# Altium footprint library SIM300DZ.PcbLib: 1 footprints
Each footprint in its own frame and in the unit in brackets; x right, y up, seen from the top. Pads: shape width x height; smd on the part's side, far side on the other; paste and mask are expansions set on the pad; w line width, h text height; cw(c..) or ccw(c..) is an arc to the next point about the centre after c.
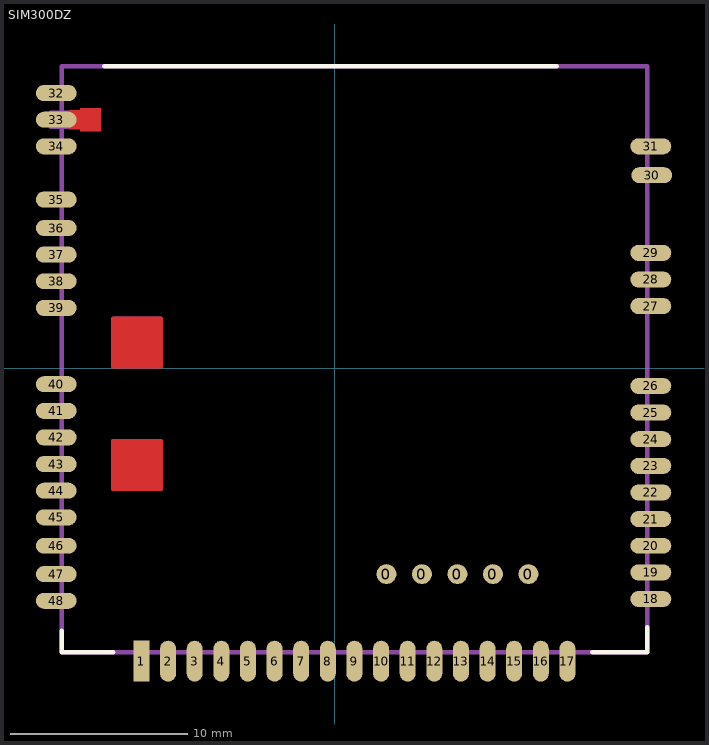
[diagram p0: the footprint, top view; thin cyan lines are the x and y axes]

## SIM300DZ [mm]
pads (53):
  round 1.12 smd: 0(2.9,-11.6) 0(4.9,-11.6) 0(6.9,-11.6) 0(8.9,-11.6) 0(10.9,-11.6)
  rect 0.9x2.3 smd: 1(-10.9,-16.5)
  oval 0.9x2.3 smd: 2(-9.4,-16.5) 3(-7.9,-16.5) 4(-6.4,-16.5) 5(-4.9,-16.5) 6(-3.4,-16.5) 7(-1.9,-16.5) 8(-0.4,-16.5) 9(1.1,-16.5) 10(2.6,-16.5) 11(4.1,-16.5) 12(5.6,-16.5) 13(7.1,-16.5) 14(8.6,-16.5) 15(10.1,-16.5) 16(11.6,-16.5) 17(13.1,-16.5)
  oval 2.3x0.9 smd: 18(17.8,-13) 19(17.8,-11.5) 20(17.8,-10) 21(17.8,-8.5) 22(17.8,-7) 23(17.8,-5.5) 24(17.8,-4) 25(17.8,-2.5) 26(17.8,-1) 27(17.8,3.5) 28(17.8,5) 29(17.8,6.5) 30(17.85,10.876) 31(17.8,12.5) 32(-15.7,15.5) 33(-15.7,14) 34(-15.7,12.5) 35(-15.7,9.5) 36(-15.7,7.9) 37(-15.7,6.4) 38(-15.7,4.9) 39(-15.7,3.4) 40(-15.7,-0.9) 41(-15.7,-2.4) 42(-15.7,-3.9) 43(-15.7,-5.4) 44(-15.7,-6.9) 45(-15.7,-8.4) 46(-15.7,-10) 47(-15.7,-11.6) 48(-15.7,-13.1)
Top Layer:
  rectangle: -12.5,-6.8 -9.8,-4.1
  rectangle: -12.5,0.1 -9.8,2.7
  rectangle: -14.375,13.35 -13.175,14.65
  rectangle: -14.975,13.45 -14.375,14.55
  lines w0.254: -15.9,-4 -15.4,-4 ; -15.9,5 -15.4,5 ; -15.9,6.5 -15.4,6.5 ; -15.9,8 -15.4,8 ; -15.8,-13 -15.4,-13 ; -15.8,-11.5 -15.4,-11.5 ; -15.8,-10 -15.4,-10 ; -15.8,-8.5 -15.4,-8.5 ; -15.8,-5.5 -15.4,-5.5 ; -15.8,-2.5 -15.4,-2.5 ; -15.8,-1 -15.4,-1 ; -15.8,3.5 -15.4,3.5 ; -15.8,9.5 -15.4,9.5 ; -15.8,12.5 -15.4,12.5 ; -10.9,-16.5 -10.9,-16 ; -9.4,-16.5 -9.4,-16 ; -7.9,-16.5 -7.9,-16 ; -6.4,-16.5 -6.4,-16 ; -4.9,-16.5 -4.9,-16 ; -3.4,-16.5 -3.4,-16 ; -1.9,-16.5 -1.9,-16 ; -0.4,-16.5 -0.4,-16 ; 1.1,-16.6 1.1,-16 ; 2.6,-16.5 2.6,-16 ; 4.1,-16.5 4.1,-16 ; 5.6,-16.5 5.6,-16 ; 7.1,-16.5 7.1,-16 ; 8.6,-16.5 8.6,-16 ; 10.1,-16.5 10.1,-16 ; 11.6,-16.5 11.6,-16 ; 13.1,-16.5 13.1,-16 ; 17.6,-13 18.1,-13 ; 17.6,-11.5 18.1,-11.5 ; 17.6,-10 18.1,-10 ; 17.6,-8.5 18.1,-8.5 ; 17.6,-7 18.1,-7 ; 17.6,-5.5 18.1,-5.5 ; 17.6,-4 18.1,-4 ; 17.6,-2.5 18.1,-2.5 ; 17.6,-1 18.1,-1 ; 17.6,3.5 18.1,3.5 ; 17.6,5 18.1,5 ; 17.6,6.5 18.1,6.5 ; 17.6,12.5 18.1,12.5 ; -12.5,-6.8 -9.8,-6.8 -9.8,-4.1 -12.5,-4.1 -12.5,-6.8 ; -12.5,0.1 -12.5,2.8 -9.8,2.8 -9.8,0.1 -12.5,0.1 ; 17.8,12.5 17.8,12.5
Top Overlay:
  lines w0.254: -15.4,-14.8 -15.4,-16 -12.5,-16 ; -13,17 12.5,17 ; 14.5,-16 17.6,-16 17.6,-14.6
Mechanical 13:
  lines w0.254: -16.2,14.1 -14,14.1 ; -16,13.6 -14.9,13.6 ; -16,14.4 -14.9,14.4 ; -15.4,15.5 -15.4,17 ; 17.6,-13 17.6,-16 ; -15.4,17 -15.4,-16 17.6,-16 ; -15.4,17 17.6,17 17.6,-16 ; -12.5,-6.8 -12.5,-4.1 -9.8,-4.1 -9.8,-6.8 -12.5,-6.8 ; -12.5,0.1 -12.5,2.8 -9.8,2.8 -9.8,0.1 -12.5,0.1
  text ".Designator" at -6.6,8.7 h1.52
3D body: height 2.95, standoff -0.02, extent -15.375,-15.959 17.661,17.059